# EAGLE library part VESD05A8A-HNH-GS08 (library SoftDust)
VESD05A8A-HNH-GS088-UFDFN - TVS Diode Array for ESD Protection
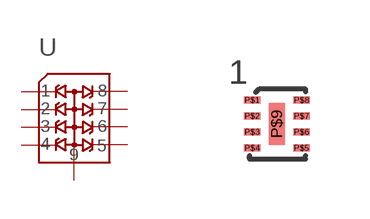
[diagram p1: symbol with the pads of 8-UFDFN; footprint 8-UFDFN]

Designator prefix -

## VESD05A8A-HNH-GS088-UFDFN_TVS-DIODE-ARRAY  [8-UFDFN]
P$1  P$1
P$2  P$2
P$3  P$3
P$4  P$4
P$5  P$5
P$6  P$6
P$7  P$7
P$8  P$8
P$9  P$9

## Footprint 8-UFDFN (pad centres in mm)
8-position UFDFN package IC
smd 0.42 x 0.178: P$1 -0.616,0.6; P$2 -0.616,0.2; P$3 -0.616,-0.2; P$4 -0.616,-0.6; P$5 0.62,-0.6; P$6 0.62,-0.2; P$7 0.62,0.2; P$8 0.62,0.6
smd 0.4 x 1.05: P$9 0,0